# EAGLE library part OPAMP (library LMV324ID)
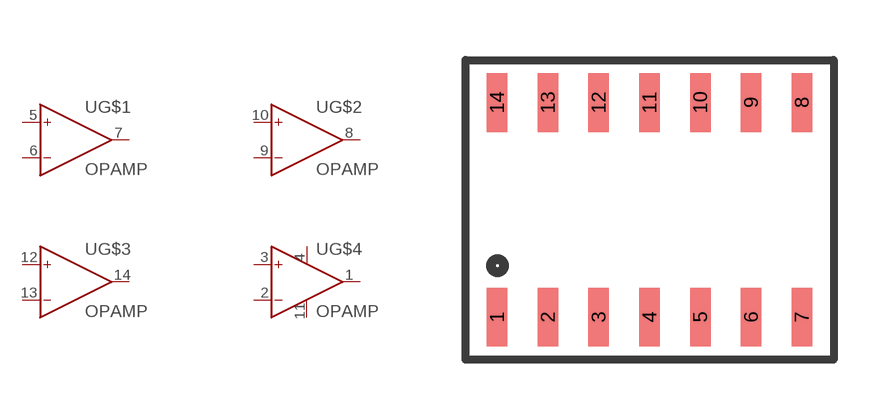
[diagram p0: symbol with the pads of SO14; footprint SO14]

Designator prefix -; gates G$1=OP G$2=OP G$3=OP G$4=OP-VCC-GND

## OPAMP  [SO14]
1  G$4:OUT  out
2  G$4:IN-  in
3  G$4:IN+  in
4  G$4:P$1
5  G$1:IN+  in
6  G$1:IN-  in
7  G$1:OUT  out
8  G$2:OUT  out
9  G$2:IN-  in
10  G$2:IN+  in
11  G$4:P$2
12  G$3:IN+  in
13  G$3:IN-  in
14  G$3:OUT  out

## Footprint SO14 (pad centres in mm)
smd 0.51 x 1.47: 1 -3.81,-2.685; 2 -2.54,-2.685; 3 -1.27,-2.685; 4 0,-2.685; 5 1.27,-2.685; 6 2.54,-2.685; 7 3.81,-2.685; 8 3.81,2.685; 9 2.54,2.685; 10 1.27,2.685; 11 0,2.685; 12 -1.27,2.685; 13 -2.54,2.685; 14 -3.81,2.685